# Altium schematic symbol library sch_opamp.SchLib: 2 symbols
Pins are listed as number, name and electrical type; pins without a type are passive.

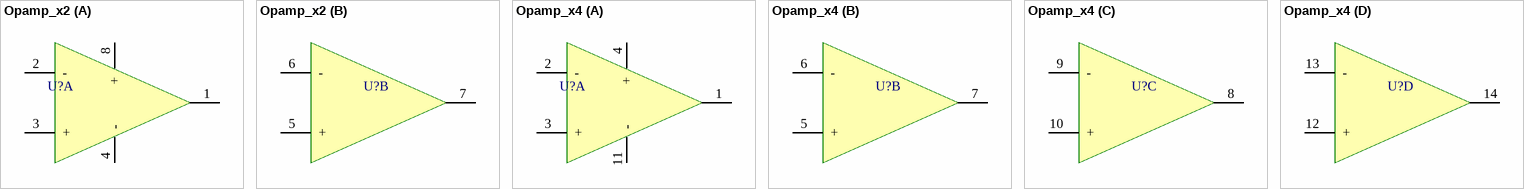
[diagram p0: symbols Opamp_x2 to Opamp_x4]

## Opamp_x2
designator U?
Integrado con 2 operacionales; Link: *; Fabricante: *
footprint D8
part A pins: 1 OUT, 2 -, 3 +, 4 -, 8 + (power)
part B pins: 5 +, 6 -, 7 OUT

## Opamp_x4
designator U?
Integrado con 4 operacionales; Link: *; Fabricante: *
footprint TSSOP-14
part A pins: 1 OUT, 2 -, 3 +, 4 + (power), 11 -
part B pins: 5 +, 6 -, 7 OUT
part C pins: 8 OUT, 9 -, 10 +
part D pins: 12 +, 13 -, 14 OUT